# EAGLE library part TLC5947 (library Fugu_LSI)
24-Channel, 12-Bit PWM LED Driver With Internal Oscillator
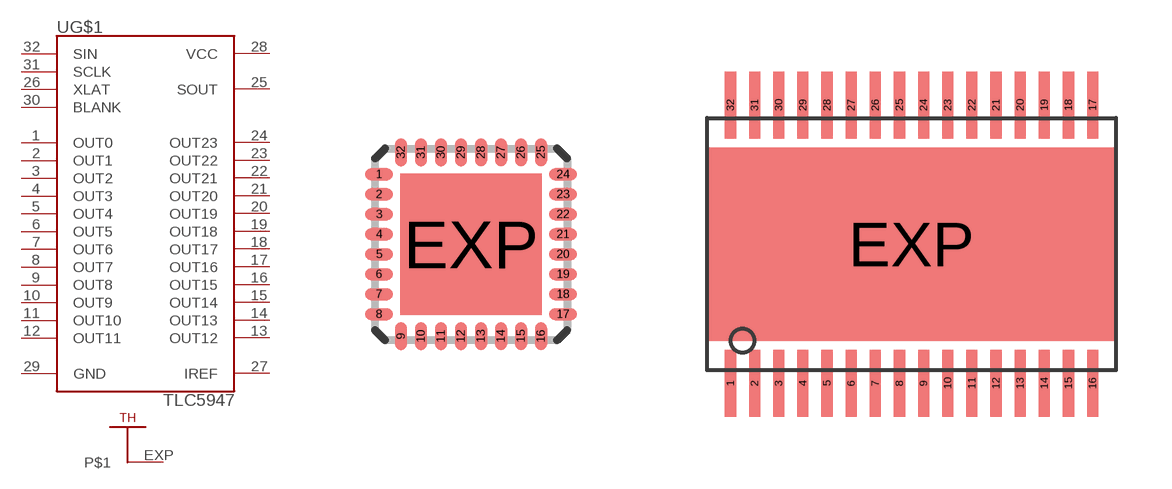
[diagram p15: symbol with the pads of QFN32; footprints QFN32, HTSSOP32DAP]

Designator prefix -; gates G$1=TLC5947 G$2=THERMAL_HEATSINK

## TLC5947QFN  [QFN32]
1  G$1:OUT0
2  G$1:OUT1
3  G$1:OUT2
4  G$1:OUT3
5  G$1:OUT4
6  G$1:OUT5
7  G$1:OUT6
8  G$1:OUT7
9  G$1:OUT8
10  G$1:OUT9
11  G$1:OUT10
12  G$1:OUT11
13  G$1:OUT12
14  G$1:OUT13
15  G$1:OUT14
16  G$1:OUT15
17  G$1:OUT16
18  G$1:OUT17
19  G$1:OUT18
20  G$1:OUT19
21  G$1:OUT20
22  G$1:OUT21
23  G$1:OUT22
24  G$1:OUT23
25  G$1:SOUT
26  G$1:XLAT
27  G$1:IREF
28  G$1:VCC
29  G$1:GND
30  G$1:BLANK
31  G$1:SCLK
32  G$1:SIN
EXP  G$2:P$1

## TLC5947DAP  [HTSSOP32DAP]
1  G$1:GND
2  G$1:BLANK
3  G$1:SCLK
4  G$1:SIN
5  G$1:OUT0
6  G$1:OUT1
7  G$1:OUT2
8  G$1:OUT3
9  G$1:OUT4
10  G$1:OUT5
11  G$1:OUT6
12  G$1:OUT7
13  G$1:OUT8
14  G$1:OUT9
15  G$1:OUT10
16  G$1:OUT11
17  G$1:OUT12
18  G$1:OUT13
19  G$1:OUT14
20  G$1:OUT15
21  G$1:OUT16
22  G$1:OUT17
23  G$1:OUT18
24  G$1:OUT19
25  G$1:OUT20
26  G$1:OUT21
27  G$1:OUT22
28  G$1:OUT23
29  G$1:SOUT
30  G$1:XLAT
31  G$1:IREF
32  G$1:VCC
EXP  G$2:P$1

## Footprint QFN32 (pad centres in mm)
32-Pin (5x5 mm) QFN Source: http://www.cypress.com .. 38-12025_0P_V.pdf
smd 0.7 x 0.3: 1 -2.3,1.75; 2 -2.3,1.25; 3 -2.3,0.75; 4 -2.3,0.25; 5 -2.3,-0.25; 6 -2.3,-0.75; 7 -2.3,-1.25; 8 -2.3,-1.75; 17 2.3,-1.75; 18 2.3,-1.25; 19 2.3,-0.75; 20 2.3,-0.25; 21 2.3,0.25; 22 2.3,0.75; 23 2.3,1.25; 24 2.3,1.75
smd 0.3 x 0.7: 9 -1.75,-2.3; 10 -1.25,-2.3; 11 -0.75,-2.3; 12 -0.25,-2.3; 13 0.25,-2.3; 14 0.75,-2.3; 15 1.25,-2.3; 16 1.75,-2.3; 25 1.75,2.3; 26 1.25,2.3; 27 0.75,2.3; 28 0.25,2.3; 29 -0.25,2.3; 30 -0.75,2.3; 31 -1.25,2.3; 32 -1.75,2.3
smd 3.53 x 3.53: EXP 0,0

## Footprint HTSSOP32DAP (pad centres in mm)
PowerPAD(TM) PLASTIC SMALL-OUTLINE PACKAGE DAP (R-PDSO-G**) Source: http://focus.ti.com/lit/ml/mpds029b/mpds029b.pdf / slma002.pdf
smd 0.3 x 1.8: 1 -4.875,-3.75; 2 -4.225,-3.75; 3 -3.575,-3.75; 4 -2.925,-3.75; 5 -2.275,-3.75; 6 -1.625,-3.75; 7 -0.975,-3.75; 8 -0.325,-3.75; 9 0.325,-3.75; 10 0.975,-3.75; 11 1.625,-3.75; 12 2.275,-3.75; 13 2.925,-3.75; 14 3.575,-3.75; 15 4.225,-3.75; 16 4.875,-3.75; 17 4.875,3.75; 18 4.225,3.75; 19 3.575,3.75; 20 2.925,3.75; 21 2.275,3.75; 22 1.625,3.75; 23 0.975,3.75; 24 0.325,3.75; 25 -0.325,3.75; 26 -0.975,3.75; 27 -1.625,3.75; 28 -2.275,3.75; 29 -2.925,3.75; 30 -3.575,3.75; 31 -4.225,3.75; 32 -4.875,3.75
smd 11 x 5.2: EXP 0,0